# Altium footprint library КОТ-С.PcbLib: 65 footprints (part 2 of 5)
Each footprint in its own frame and in the unit in brackets; x right, y up, seen from the top. Pads: shape width x height; smd on the part's side, far side on the other; paste and mask are expansions set on the pad; w line width, h text height; cw(c..) or ccw(c..) is an arc to the next point about the centre after c.
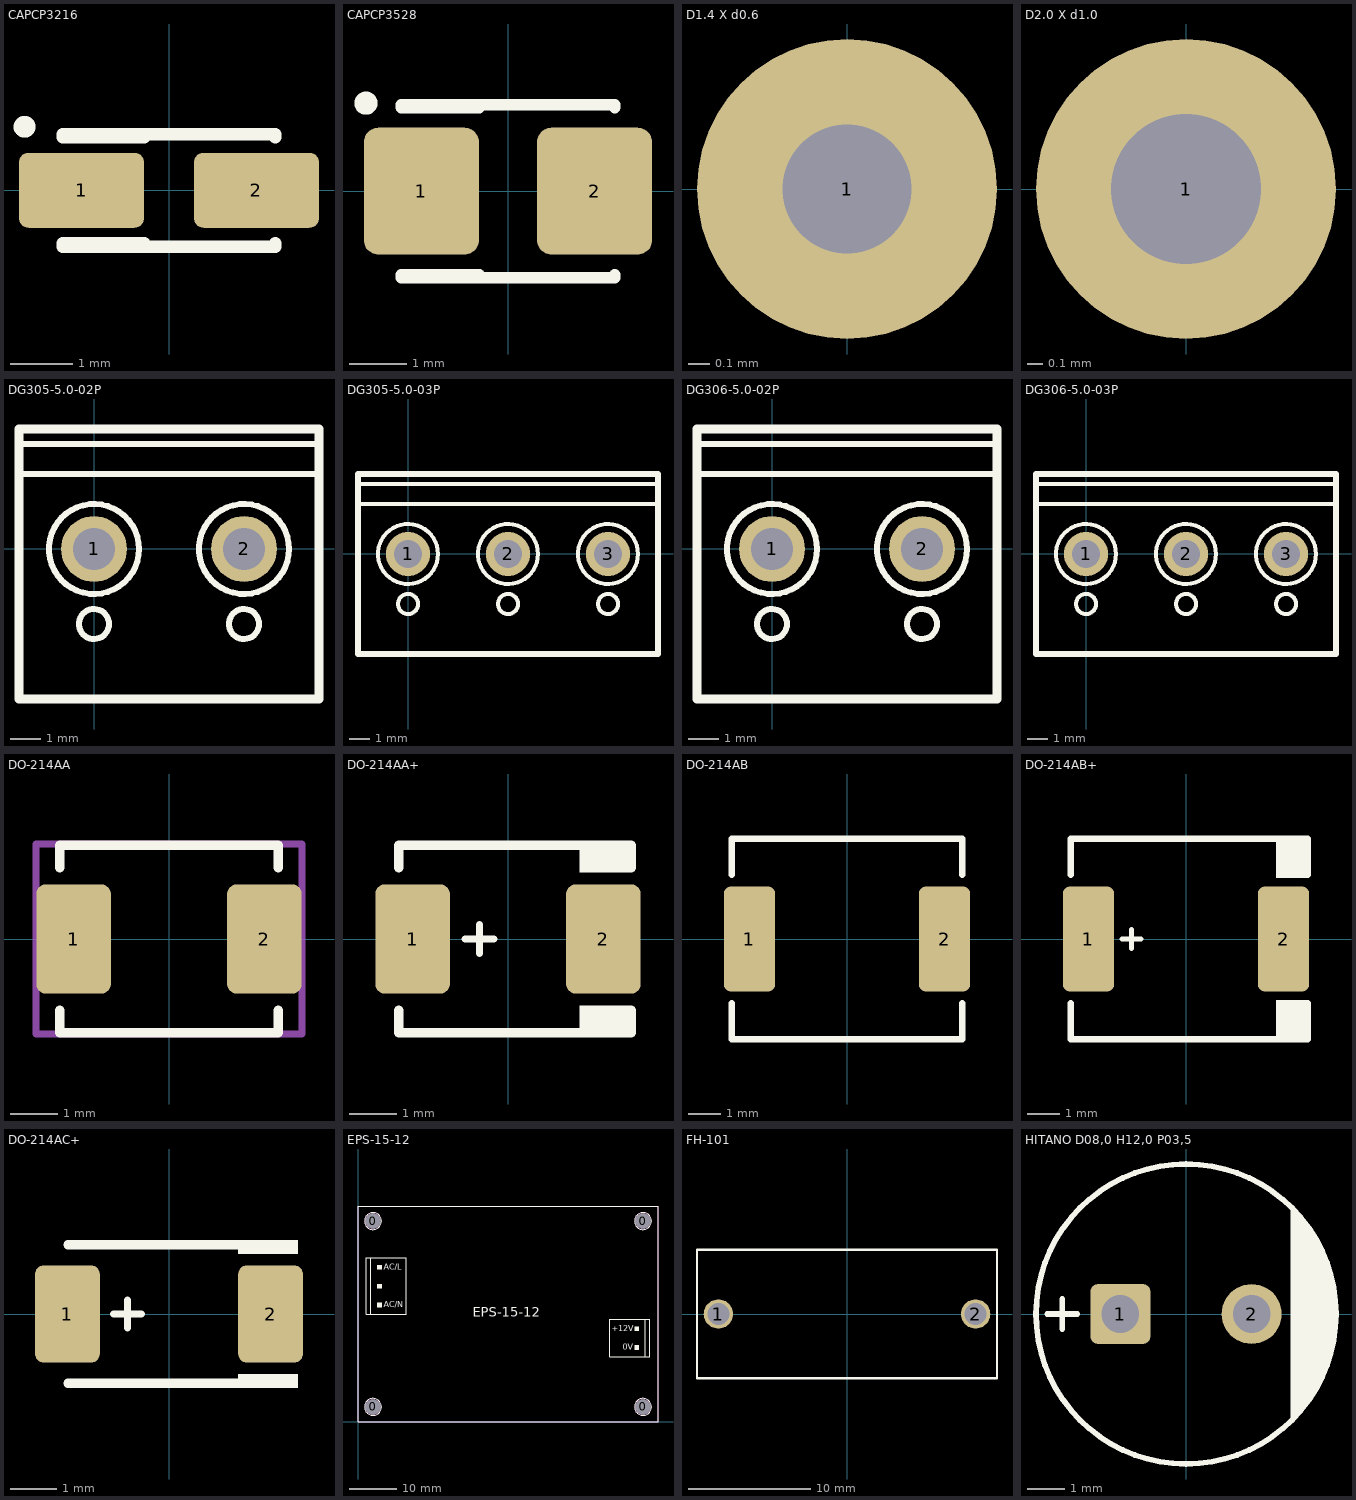
[diagram p1: the footprints below, top view; thin cyan lines are the x and y axes]

## CAPCP3216 [mm] "Capacitor, SM Tantalum Case A; Body 3.2 x 1.6 mm (LxW typ)"
height 2.2
pads (2):
  rrect25% 2x1.2 smd: 1(-1.4,0) 2(1.4,0)
Top Overlay:
  circle w0.3: c-2.311,1.016 r0.025
  lines w0.2: -1.7,-0.9 1.7,-0.9 1.7,-0.85 ; -1.7,-0.85 -0.4,-0.85 ; -1.7,0.85 -0.4,0.85 ; -1.7,0.9 1.7,0.9 1.7,0.85
3D body "CAPCP3216X18.STEP": height 1.8, standoff 0, extent -1.6,-0.8 1.6,0.8

## CAPCP3528 [mm] "Capacitor, SM Tantalum Case B; Body 3.5 x 2.8 mm (LxW typ)"
height 2.5
pads (2):
  rrect25% 2x2.2 smd: 1(-1.5,0) 2(1.5,0)
Top Overlay:
  circle w0.3: c-2.463,1.524 r0.05
  lines w0.2: -1.85,-1.5 1.85,-1.5 1.85,-1.45 ; -1.85,-1.45 -0.5,-1.45 ; -1.85,1.45 -0.5,1.45 ; -1.85,1.5 1.85,1.5 1.85,1.45
3D body "CAPCP3528X21.STEP": height 2.1, standoff 0, extent -1.75,-1.4 1.75,1.4

## D1.4 Х d0.6 [mm]
pads (1):
  round 1.4 hole 0.6 mask+0.07: 1(0,0)

## D2.0 Х d1.0 [mm]
pads (1):
  round 2 hole 1: 1(0,0)

## DG305-5.0-02P [mm]
height 12.6
pads (2):
  round 2.2 hole 1.4 mask+0.07: 1(0,0) 2(5,0)
Top Overlay:
  circle w0.2: c5,0 r1.5
  circle w0.2: c0,0 r1.5
  circle w0.2: c5,-2.5 r0.5
  circle w0.2: c0,-2.5 r0.5
  lines w0.2: -2.5,2.5 7.5,2.5 ; -2.5,3.5 7.5,3.5
  lines w0.3: -2.5,-5 7.5,-5 7.5,4 -2.5,4 -2.5,-5
3D body "DG305-5.0-02P.stp": height 12.62, standoff -4.38, extent -2.5,-5 8.1,4

## DG305-5.0-03P [mm]
height 12.6
pads (3):
  round 2.2 hole 1.4: 1(0,0) 2(5,0) 3(10,0)
Top Overlay:
  circle w0.2: c5,0 r1.5
  circle w0.2: c5,-2.5 r0.5
  circle w0.2: c10,0 r1.5
  circle w0.2: c0,0 r1.5
  circle w0.2: c10,-2.5 r0.5
  circle w0.2: c0,-2.5 r0.5
  lines w0.2: -2.5,2.5 12.5,2.5 ; -2.5,3.5 12.5,3.5
  lines w0.3: -2.5,-5 12.5,-5 12.5,4 -2.5,4 -2.5,-5
3D body "DG305-5.0-03P.stp": height 12.62, standoff -4.38, extent -2.5,-5 13.1,4

## DG306-5.0-02P [mm]
height 10
pads (2):
  round 2.2 hole 1.4 mask+0.07: 1(0,0) 2(5,0)
Top Overlay:
  circle w0.2: c0,-2.5 r0.5
  circle w0.2: c5,-2.5 r0.5
  circle w0.2: c0,0 r1.5
  circle w0.2: c5,0 r1.5
  lines w0.2: -2.5,2.5 7.5,2.5 ; -2.5,3.5 7.5,3.5
  lines w0.3: -2.5,-5 -2.5,4 7.5,4 7.5,-5 -2.5,-5
3D body "DG305-5.0-02P.stp": height 11.6, standoff -5.4, extent -2.5,-5 8.1,4

## DG306-5.0-03P [mm]
height 10
pads (3):
  round 2.2 hole 1.4: 1(0,0) 2(5,0) 3(10,0)
Top Overlay:
  circle w0.2: c5,0 r1.5
  circle w0.2: c5,-2.5 r0.5
  circle w0.2: c10,0 r1.5
  circle w0.2: c0,0 r1.5
  circle w0.2: c10,-2.5 r0.5
  circle w0.2: c0,-2.5 r0.5
  lines w0.2: -2.5,2.5 12.5,2.5 ; -2.5,3.5 12.5,3.5
  lines w0.3: -2.5,-5 12.5,-5 12.5,4 -2.5,4 -2.5,-5
3D body "DG305-5.0-03P.stp": height 11.6, standoff -5.4, extent -2.5,-5 13.1,4

## DO-214AA [mm] "SMB"
pads (2):
  rrect25% 1.57x2.3 smd: 1(-2.01,0) 2(2.01,0)
Top Overlay:
  lines w0.2: -2.3,-1.5 -2.3,-1.975 2.3,-1.975 2.3,-1.5 ; -2.3,1.5 -2.3,1.975 2.3,1.975 2.3,1.5
Mechanical 5:
  lines w0.15: -2.8,-2 2.8,-2 2.8,2 -2.8,2 -2.8,-2
  text ".Designator" at -2.35,-0.6 h2.5
3D body "DO-214AA.stp": height 2.67, standoff 0.02, extent -2.8,-1.975 2.8,1.975

## DO-214AA+ [mm] "SMB"
pads (2):
  rrect25% 1.57x2.3 smd: 1(-2.01,0) 2(2.01,0)
Top Overlay:
  region: 2.6,1.975 1.504,1.975 1.504,1.4 2.6,1.4
  region: 2.6,-1.4 1.504,-1.4 1.504,-1.975 2.6,-1.975
  lines w0.15: -0.9,0 -0.3,0 ; -0.6,-0.3 -0.6,0.3
  lines w0.2: -2.3,-1.5 -2.3,-1.975 2.6,-1.975 2.6,-1.5 ; -2.3,1.5 -2.3,1.975 2.6,1.975 2.6,1.5
3D body "DO-214AA+.stp": height 2.67, standoff 0.02, extent -2.8,-1.975 2.8,1.975

## DO-214AB [mm] "SMC"
pads (2):
  rrect25% 1.59x3.27 smd mask+0.102: 1(-3.04,0) 2(3.04,0)
Top Overlay:
  lines w0.2: -3.596,-2 -3.596,-3.125 3.596,-3.125 3.596,-2 ; -3.596,1.996 -3.596,3.125 3.596,3.125 3.596,1.996
3D body "SMC.stp": height 2.66, standoff 0.04, extent -4.065,-3.12 4.065,3.1

## DO-214AB+ [mm] "SMC"
pads (2):
  rrect25% 1.59x3.27 smd mask+0.102: 1(-3.04,0) 2(3.04,0)
Top Overlay:
  region: 3.8,-1.9 2.8,-1.9 2.8,-3.125 3.8,-3.125
  region: 3.8,3.125 2.8,3.125 2.8,1.9 3.8,1.9
  lines w0.15: -2,0 -1.4,0 ; -1.7,-0.3 -1.7,0.3
  lines w0.2: -3.596,-2 -3.596,-3.125 3.8,-3.125 3.8,-2 ; -3.596,1.996 -3.596,3.125 3.8,3.125 3.8,2
3D body "SMC.stp": height 2.66, standoff 0.04, extent -4.065,-3.12 4.065,3.1

## DO-214AC+ [mm] "DO-214AC (SMA) 2-Cathode"
pads (2):
  rrect25% 1.4x2.1 smd: 1(-2.2,0)
  rrect25% 1.4x2.1 smd mask+0.1: 2(2.2,0)
Top Overlay:
  region: 2.8,-1.3 1.5,-1.3 1.5,-1.6 2.8,-1.6
  region: 2.8,1.6 1.5,1.6 1.5,1.3 2.8,1.3
  lines w0.15: -1.2,0 -0.6,0 ; -0.9,-0.3 -0.9,0.3
  lines w0.2: -2.19,-1.5 2.6,-1.5 ; -2.19,1.5 2.6,1.5
3D body "SMA.STEP": height 2.4, standoff 0, extent -2.8,-1.45 2.8,1.45

## EPS-15-12 [mm] "MeanWell AC/DC 15W Single Output Switching Power Supply"
height 24
pads (4):
  round 3.2 hole 3.2 unplated paste+0 mask+0: 0(3.175,3.175) 0(3.175,42.525) 0(60.325,3.175) 0(60.325,42.525)
Top Overlay:
  circle w0.2: c3.175,3.175 r1.8
  circle w0.2: c60.325,3.175 r1.8
  circle w0.2: c60.325,42.525 r1.8
  circle w0.2: c3.175,42.525 r1.8
  region: 5.05,25.25 4.05,25.25 4.05,24.25 5.05,24.25
  region: 5.05,33.25 4.05,33.25 4.05,32.25 5.05,32.25
  region: 5.05,29.25 4.05,29.25 4.05,28.25 5.05,28.25
  rectangle: 58.5,15.25 59.5,16.25
  rectangle: 58.5,19.25 59.5,20.25
  lines w0.2: 2.75,22.75 2.75,34.75 ; 60.8,13.75 60.8,21.75 ; 0,0 63.5,0 63.5,45.7 0,45.7 0,0 ; 1.75,22.75 1.75,34.75 10.25,34.75 10.25,22.75 1.75,22.75 ; 53.3,13.75 61.8,13.75 61.8,21.75 53.3,21.75 53.3,13.75
  text "AC/N" at 5.5,24.25 h1.2
  text "AC/L" at 5.5,32.25 h1.2
  text "EPS-15-12" at 24.25,22.25 h2
  text "+12V" at 53.75,19.25 h1.2
  text "0V" at 56,15.25 h1.2
Mechanical 1:
  circle w0.2: c3.175,42.525 r1.7
  circle w0.2: c60.325,42.525 r1.7
  circle w0.2: c60.325,3.175 r1.7
  circle w0.2: c3.175,3.175 r1.7
  lines w0.2: 0,0 0,45.7 63.5,45.7 63.5,0 0,0

## FH-101 [mm]
pads (2):
  round 2.4 hole 1.8: 1(-10.5,0) 2(10.5,0)
Top Overlay:
  lines w0.2: -12.25,-5.25 12.25,-5.25 12.25,5.25 -12.25,5.25 -12.25,-5.25
3D body "FH-101.stp": height 11.02, standoff -4.58, extent -12,-5.1 12,5.1

## HITANO D08,0 H12,0 P03,5 [mm]
pads (2):
  rrect25% 1.6x1.6 hole 1: 1(-1.75,0)
  round 1.6 hole 1: 2(1.75,0)
Top Overlay:
  circle w0.15: c0,0 r4
  region: 2.8,2.9 3.7,1.6 4,0.3 3.9,-0.8 3.5,-1.9 3.1,-2.5 2.8,-2.8
  lines w0.15: -3.7,0 -2.9,0 ; -3.3,-0.4 -3.3,0.4
3D body "HITANO D08,0 H12,0 P03,5.stp": height 12.02, standoff -2.98, extent -3.984,-3.992 3.984,3.992